# Altium footprint library Connector_Phoenix_MC.PcbLib: 180 footprints (part 8 of 12)
Each footprint in its own frame and in the unit in brackets; x right, y up, seen from the top. Pads: shape width x height; smd on the part's side, far side on the other; paste and mask are expansions set on the pad; w line width, h text height; cw(c..) or ccw(c..) is an arc to the next point about the centre after c.
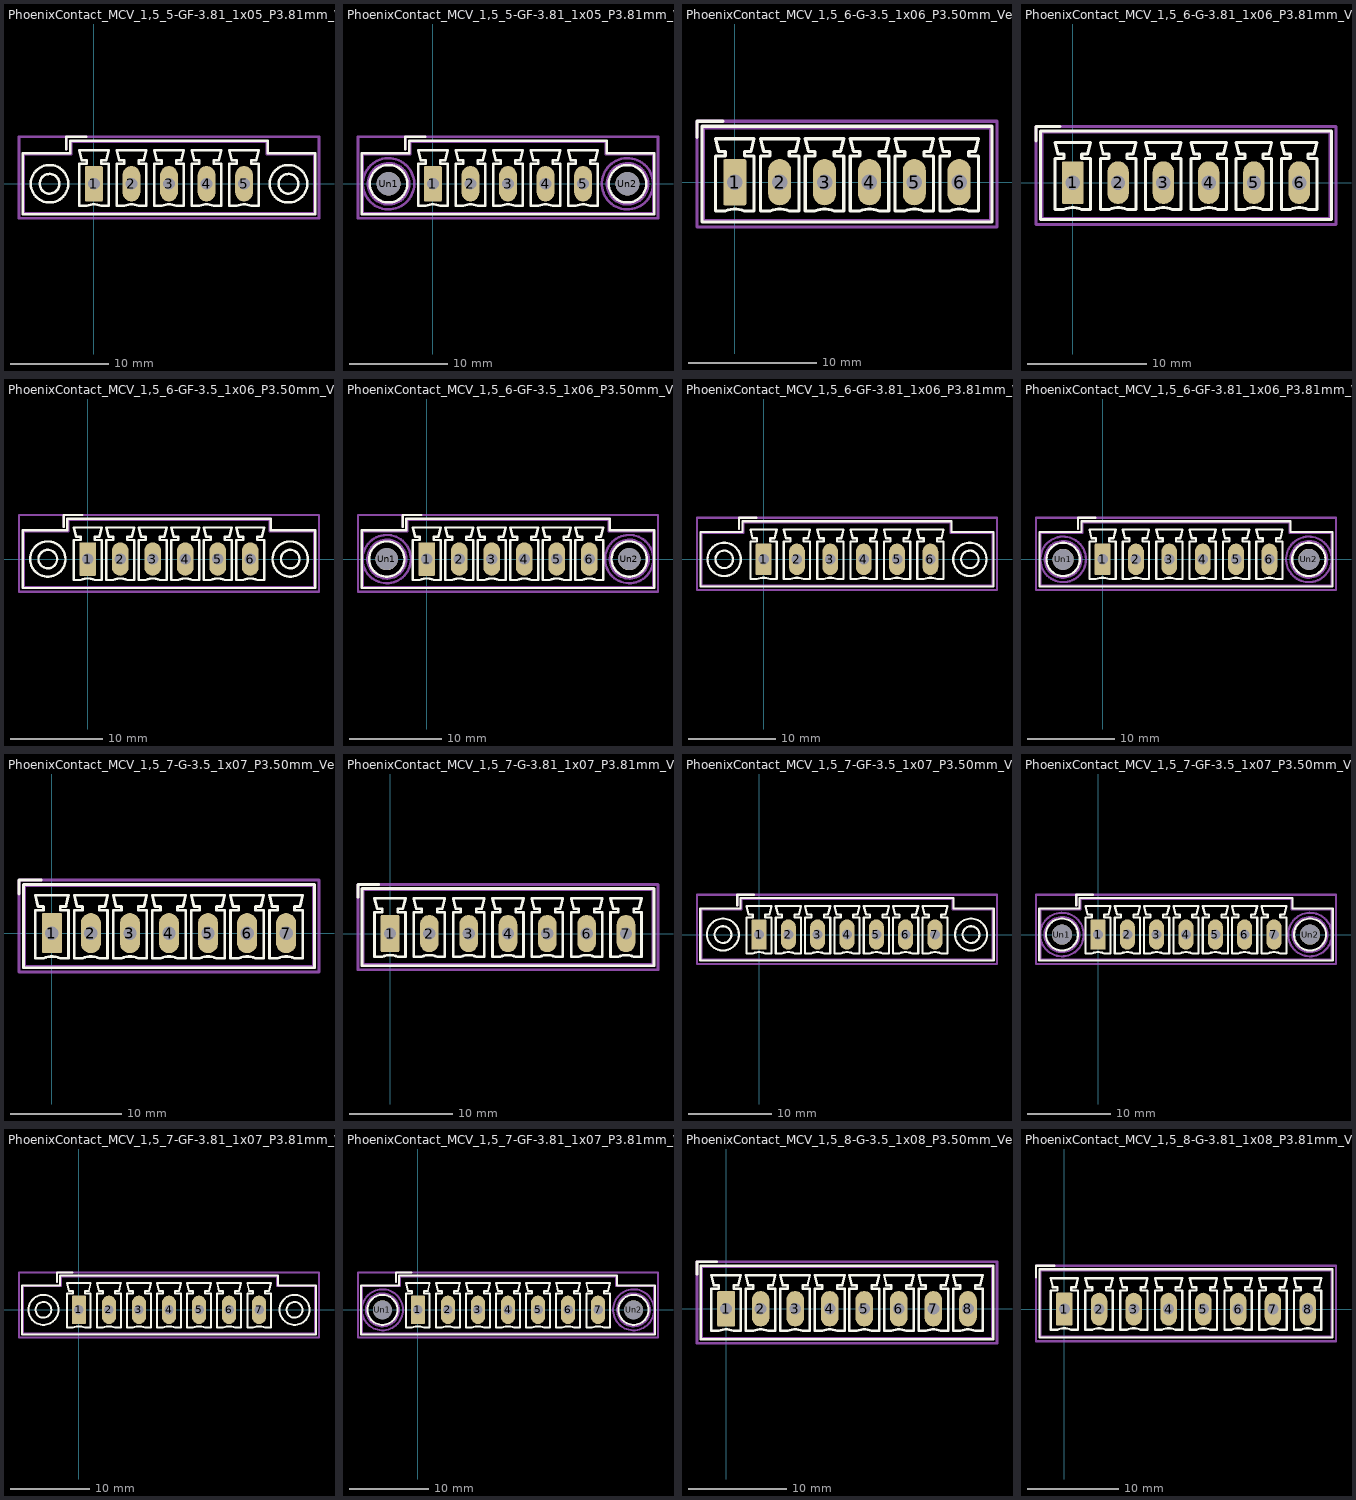
[diagram p7: the footprints below, top view; thin cyan lines are the x and y axes]

## PhoenixContact_MCV_1,5_5-GF-3.81_1x05_P3.81mm_Vertical_ThreadedFlange [mm]
pads (5):
  rrect14% 1.8x3.6 hole 1.2: 1(0,0)
  rrect100% 1.8x3.6 hole 1.2: 2(3.81,0) 3(7.62,0) 4(11.43,0) 5(15.24,0)
F.SilkS:
  circle w0.254: c19.74,0 r1.9
  circle w0.254: c19.74,0 r1
  circle w0.254: c-4.5,0 r1.9
  circle w0.254: c-4.5,0 r1
  lines w0.254: -2.8,3.5 -2.8,4.75 -0.8,4.75 ; 0.75,-2.25 ccw(c0,-3.95) -0.75,-2.25 -1.5,-2.25 -1.5,2.05 -0.75,2.05 -0.75,2.4 -1.25,2.4 -1.5,3.4 1.5,3.4 1.25,2.4 0.75,2.4 0.75,2.05 1.5,2.05 1.5,-2.25 0.75,-2.25 ; 4.56,-2.25 ccw(c3.81,-3.95) 3.06,-2.25 2.31,-2.25 2.31,2.05 3.06,2.05 3.06,2.4 2.56,2.4 2.31,3.4 5.31,3.4 5.06,2.4 4.56,2.4 4.56,2.05 5.31,2.05 5.31,-2.25 4.56,-2.25 ; 8.37,-2.25 ccw(c7.62,-3.95) 6.87,-2.25 6.12,-2.25 6.12,2.05 6.87,2.05 6.87,2.4 6.37,2.4 6.12,3.4 9.12,3.4 8.87,2.4 8.37,2.4 8.37,2.05 9.12,2.05 9.12,-2.25 8.37,-2.25 ; 12.18,-2.25 ccw(c11.43,-3.95) 10.68,-2.25 9.93,-2.25 9.93,2.05 10.68,2.05 10.68,2.4 10.18,2.4 9.93,3.4 12.93,3.4 12.68,2.4 12.18,2.4 12.18,2.05 12.93,2.05 12.93,-2.25 12.18,-2.25 ; 15.99,-2.25 ccw(c15.24,-3.95) 14.49,-2.25 13.74,-2.25 13.74,2.05 14.49,2.05 14.49,2.4 13.99,2.4 13.74,3.4 16.74,3.4 16.49,2.4 15.99,2.4 15.99,2.05 16.74,2.05 16.74,-2.25 15.99,-2.25 ; -7.21,-3.11 22.45,-3.11 22.45,3.11 17.65,3.11 17.65,4.36 -2.41,4.36 -2.41,3.11 -7.21,3.11 -7.21,-3.11
Top Assembly:
  lines w0.254: -2.8,3.5 -2.8,4.75 -0.8,4.75 ; -7.1,-3 22.34,-3 22.34,3 17.54,3 17.54,4.25 -2.3,4.25 -2.3,3 -7.1,3 -7.1,-3
  text "'.Designator'" at 3.573,2.71 h1
Top Courtyard:
  lines w0.254: -7.6,-3.5 22.84,-3.5 22.84,4.75 -7.6,4.75 -7.6,-3.5
Top Designator:
  text ".Designator" at 0.002,0.117 h1.52

## PhoenixContact_MCV_1,5_5-GF-3.81_1x05_P3.81mm_Vertical_ThreadedFlange_MountHole [mm]
pads (7):
  rrect14% 1.8x3.6 hole 1.2: 1(0,0)
  rrect100% 1.8x3.6 hole 1.2: 2(3.81,0) 3(7.62,0) 4(11.43,0) 5(15.24,0)
  round 2.4 hole 2.4: Un1(-4.5,0) Un2(19.74,0)
F.SilkS:
  circle w0.254: c19.74,0 r1.9
  circle w0.254: c-4.5,0 r1.9
  lines w0.254: -2.8,3.5 -2.8,4.75 -0.8,4.75 ; 0.75,-2.25 ccw(c0,-3.95) -0.75,-2.25 -1.5,-2.25 -1.5,2.05 -0.75,2.05 -0.75,2.4 -1.25,2.4 -1.5,3.4 1.5,3.4 1.25,2.4 0.75,2.4 0.75,2.05 1.5,2.05 1.5,-2.25 0.75,-2.25 ; 4.56,-2.25 ccw(c3.81,-3.95) 3.06,-2.25 2.31,-2.25 2.31,2.05 3.06,2.05 3.06,2.4 2.56,2.4 2.31,3.4 5.31,3.4 5.06,2.4 4.56,2.4 4.56,2.05 5.31,2.05 5.31,-2.25 4.56,-2.25 ; 8.37,-2.25 ccw(c7.62,-3.95) 6.87,-2.25 6.12,-2.25 6.12,2.05 6.87,2.05 6.87,2.4 6.37,2.4 6.12,3.4 9.12,3.4 8.87,2.4 8.37,2.4 8.37,2.05 9.12,2.05 9.12,-2.25 8.37,-2.25 ; 12.18,-2.25 ccw(c11.43,-3.95) 10.68,-2.25 9.93,-2.25 9.93,2.05 10.68,2.05 10.68,2.4 10.18,2.4 9.93,3.4 12.93,3.4 12.68,2.4 12.18,2.4 12.18,2.05 12.93,2.05 12.93,-2.25 12.18,-2.25 ; 15.99,-2.25 ccw(c15.24,-3.95) 14.49,-2.25 13.74,-2.25 13.74,2.05 14.49,2.05 14.49,2.4 13.99,2.4 13.74,3.4 16.74,3.4 16.49,2.4 15.99,2.4 15.99,2.05 16.74,2.05 16.74,-2.25 15.99,-2.25 ; -7.21,-3.11 22.45,-3.11 22.45,3.11 17.65,3.11 17.65,4.36 -2.41,4.36 -2.41,3.11 -7.21,3.11 -7.21,-3.11
B.SilkS:
  circle w0.254: c19.74,0 r2.21
  circle w0.254: c-4.5,0 r2.21
Top Assembly:
  lines w0.254: -2.8,3.5 -2.8,4.75 -0.8,4.75 ; -7.1,-3 22.34,-3 22.34,3 17.54,3 17.54,4.25 -2.3,4.25 -2.3,3 -7.1,3 -7.1,-3
  text "'.Designator'" at 3.573,2.71 h1
Bottom Assembly:
  circle w0.254: c19.74,0 r2.1
  circle w0.254: c-4.5,0 r2.1
Top Courtyard:
  lines w0.254: -7.6,-3.5 22.84,-3.5 22.84,4.75 -7.6,4.75 -7.6,-3.5
Bottom Courtyard:
  circle w0.254: c19.74,0 r2.6
  circle w0.254: c-4.5,0 r2.6
Top Designator:
  text ".Designator" at 0.002,0.117 h1.52

## PhoenixContact_MCV_1,5_6-G-3.5_1x06_P3.50mm_Vertical [mm]
pads (6):
  rrect14% 1.8x3.6 hole 1.2: 1(0,0)
  rrect100% 1.8x3.6 hole 1.2: 2(3.5,0) 3(7,0) 4(10.5,0) 5(14,0) 6(17.5,0)
F.SilkS:
  lines w0.254: -2.95,3.5 -2.95,4.75 -0.95,4.75 ; 0.75,-2.25 ccw(c0,-3.95) -0.75,-2.25 -1.5,-2.25 -1.5,2.05 -0.75,2.05 -0.75,2.4 -1.25,2.4 -1.5,3.4 1.5,3.4 1.25,2.4 0.75,2.4 0.75,2.05 1.5,2.05 1.5,-2.25 0.75,-2.25 ; -2.56,-3.11 20.06,-3.11 20.06,4.36 -2.56,4.36 -2.56,-3.11 ; 2,-2.25 2.75,-2.25 cw(c3.5,-3.95) 4.25,-2.25 5,-2.25 5,2.05 4.25,2.05 4.25,2.4 4.75,2.4 5,3.4 2,3.4 2.25,2.4 2.75,2.4 2.75,2.05 2,2.05 2,-2.25 ; 5.5,-2.25 6.25,-2.25 cw(c7,-3.95) 7.75,-2.25 8.5,-2.25 8.5,2.05 7.75,2.05 7.75,2.4 8.25,2.4 8.5,3.4 5.5,3.4 5.75,2.4 6.25,2.4 6.25,2.05 5.5,2.05 5.5,-2.25 ; 9,-2.25 9.75,-2.25 cw(c10.5,-3.95) 11.25,-2.25 12,-2.25 12,2.05 11.25,2.05 11.25,2.4 11.75,2.4 12,3.4 9,3.4 9.25,2.4 9.75,2.4 9.75,2.05 9,2.05 9,-2.25 ; 12.5,-2.25 13.25,-2.25 cw(c14,-3.95) 14.75,-2.25 15.5,-2.25 15.5,2.05 14.75,2.05 14.75,2.4 15.25,2.4 15.5,3.4 12.5,3.4 12.75,2.4 13.25,2.4 13.25,2.05 12.5,2.05 12.5,-2.25 ; 16,-2.25 16.75,-2.25 cw(c17.5,-3.95) 18.25,-2.25 19,-2.25 19,2.05 18.25,2.05 18.25,2.4 18.75,2.4 19,3.4 16,3.4 16.25,2.4 16.75,2.4 16.75,2.05 16,2.05 16,-2.25
Top Assembly:
  lines w0.254: -2.95,3.5 -2.95,4.75 -0.95,4.75 ; -2.45,-3 19.95,-3 19.95,4.25 -2.45,4.25 -2.45,-3
  text "'.Designator'" at 4.703,2.71 h1
Top Courtyard:
  lines w0.254: -2.95,-3.5 20.45,-3.5 20.45,4.75 -2.95,4.75 -2.95,-3.5
Top Designator:
  text ".Designator" at 1.132,0.117 h1.52

## PhoenixContact_MCV_1,5_6-G-3.81_1x06_P3.81mm_Vertical [mm]
pads (6):
  rrect14% 1.8x3.6 hole 1.2: 1(0,0)
  rrect100% 1.8x3.6 hole 1.2: 2(3.81,0) 3(7.62,0) 4(11.43,0) 5(15.24,0) 6(19.05,0)
F.SilkS:
  lines w0.254: -3.1,3.5 -3.1,4.75 -1.1,4.75 ; 0.75,-2.25 ccw(c0,-3.95) -0.75,-2.25 -1.5,-2.25 -1.5,2.05 -0.75,2.05 -0.75,2.4 -1.25,2.4 -1.5,3.4 1.5,3.4 1.25,2.4 0.75,2.4 0.75,2.05 1.5,2.05 1.5,-2.25 0.75,-2.25 ; 4.56,-2.25 ccw(c3.81,-3.95) 3.06,-2.25 2.31,-2.25 2.31,2.05 3.06,2.05 3.06,2.4 2.56,2.4 2.31,3.4 5.31,3.4 5.06,2.4 4.56,2.4 4.56,2.05 5.31,2.05 5.31,-2.25 4.56,-2.25 ; 8.37,-2.25 ccw(c7.62,-3.95) 6.87,-2.25 6.12,-2.25 6.12,2.05 6.87,2.05 6.87,2.4 6.37,2.4 6.12,3.4 9.12,3.4 8.87,2.4 8.37,2.4 8.37,2.05 9.12,2.05 9.12,-2.25 8.37,-2.25 ; 12.18,-2.25 ccw(c11.43,-3.95) 10.68,-2.25 9.93,-2.25 9.93,2.05 10.68,2.05 10.68,2.4 10.18,2.4 9.93,3.4 12.93,3.4 12.68,2.4 12.18,2.4 12.18,2.05 12.93,2.05 12.93,-2.25 12.18,-2.25 ; 15.99,-2.25 ccw(c15.24,-3.95) 14.49,-2.25 13.74,-2.25 13.74,2.05 14.49,2.05 14.49,2.4 13.99,2.4 13.74,3.4 16.74,3.4 16.49,2.4 15.99,2.4 15.99,2.05 16.74,2.05 16.74,-2.25 15.99,-2.25 ; 19.8,-2.25 ccw(c19.05,-3.95) 18.3,-2.25 17.55,-2.25 17.55,2.05 18.3,2.05 18.3,2.4 17.8,2.4 17.55,3.4 20.55,3.4 20.3,2.4 19.8,2.4 19.8,2.05 20.55,2.05 20.55,-2.25 19.8,-2.25 ; -2.71,-3.11 21.76,-3.11 21.76,4.36 -2.71,4.36 -2.71,-3.11
Top Assembly:
  lines w0.254: -3.1,3.5 -3.1,4.75 -1.1,4.75 ; -2.6,-3 21.65,-3 21.65,4.25 -2.6,4.25 -2.6,-3
  text "'.Designator'" at 5.473,2.71 h1
Top Courtyard:
  lines w0.254: -3.1,-3.5 22.15,-3.5 22.15,4.75 -3.1,4.75 -3.1,-3.5
Top Designator:
  text ".Designator" at 1.907,0.117 h1.52

## PhoenixContact_MCV_1,5_6-GF-3.5_1x06_P3.50mm_Vertical_ThreadedFlange [mm]
pads (6):
  rrect14% 1.8x3.6 hole 1.2: 1(0,0)
  rrect100% 1.8x3.6 hole 1.2: 2(3.5,0) 3(7,0) 4(10.5,0) 5(14,0) 6(17.5,0)
F.SilkS:
  circle w0.254: c21.8,0 r1.9
  circle w0.254: c21.8,0 r1
  circle w0.254: c-4.3,0 r1.9
  circle w0.254: c-4.3,0 r1
  lines w0.254: -2.6,3.5 -2.6,4.75 -0.6,4.75 ; 0.75,-2.25 ccw(c0,-3.95) -0.75,-2.25 -1.5,-2.25 -1.5,2.05 -0.75,2.05 -0.75,2.4 -1.25,2.4 -1.5,3.4 1.5,3.4 1.25,2.4 0.75,2.4 0.75,2.05 1.5,2.05 1.5,-2.25 0.75,-2.25 ; -7.01,-3.11 24.51,-3.11 24.51,3.11 19.71,3.11 19.71,4.36 -2.21,4.36 -2.21,3.11 -7.01,3.11 -7.01,-3.11 ; 2,-2.25 2.75,-2.25 cw(c3.5,-3.95) 4.25,-2.25 5,-2.25 5,2.05 4.25,2.05 4.25,2.4 4.75,2.4 5,3.4 2,3.4 2.25,2.4 2.75,2.4 2.75,2.05 2,2.05 2,-2.25 ; 5.5,-2.25 6.25,-2.25 cw(c7,-3.95) 7.75,-2.25 8.5,-2.25 8.5,2.05 7.75,2.05 7.75,2.4 8.25,2.4 8.5,3.4 5.5,3.4 5.75,2.4 6.25,2.4 6.25,2.05 5.5,2.05 5.5,-2.25 ; 9,-2.25 9.75,-2.25 cw(c10.5,-3.95) 11.25,-2.25 12,-2.25 12,2.05 11.25,2.05 11.25,2.4 11.75,2.4 12,3.4 9,3.4 9.25,2.4 9.75,2.4 9.75,2.05 9,2.05 9,-2.25 ; 12.5,-2.25 13.25,-2.25 cw(c14,-3.95) 14.75,-2.25 15.5,-2.25 15.5,2.05 14.75,2.05 14.75,2.4 15.25,2.4 15.5,3.4 12.5,3.4 12.75,2.4 13.25,2.4 13.25,2.05 12.5,2.05 12.5,-2.25 ; 16,-2.25 16.75,-2.25 cw(c17.5,-3.95) 18.25,-2.25 19,-2.25 19,2.05 18.25,2.05 18.25,2.4 18.75,2.4 19,3.4 16,3.4 16.25,2.4 16.75,2.4 16.75,2.05 16,2.05 16,-2.25
Top Assembly:
  lines w0.254: -2.6,3.5 -2.6,4.75 -0.6,4.75 ; -6.9,-3 24.4,-3 24.4,3 19.6,3 19.6,4.25 -2.1,4.25 -2.1,3 -6.9,3 -6.9,-3
  text "'.Designator'" at 4.703,2.71 h1
Top Courtyard:
  lines w0.254: -7.4,-3.5 24.9,-3.5 24.9,4.75 -7.4,4.75 -7.4,-3.5
Top Designator:
  text ".Designator" at 1.132,0.117 h1.52

## PhoenixContact_MCV_1,5_6-GF-3.5_1x06_P3.50mm_Vertical_ThreadedFlange_MountHole [mm]
pads (8):
  rrect14% 1.8x3.6 hole 1.2: 1(0,0)
  rrect100% 1.8x3.6 hole 1.2: 2(3.5,0) 3(7,0) 4(10.5,0) 5(14,0) 6(17.5,0)
  round 2.4 hole 2.4: Un1(-4.3,0) Un2(21.8,0)
F.SilkS:
  circle w0.254: c21.8,0 r1.9
  circle w0.254: c-4.3,0 r1.9
  lines w0.254: -2.6,3.5 -2.6,4.75 -0.6,4.75 ; 0.75,-2.25 ccw(c0,-3.95) -0.75,-2.25 -1.5,-2.25 -1.5,2.05 -0.75,2.05 -0.75,2.4 -1.25,2.4 -1.5,3.4 1.5,3.4 1.25,2.4 0.75,2.4 0.75,2.05 1.5,2.05 1.5,-2.25 0.75,-2.25 ; -7.01,-3.11 24.51,-3.11 24.51,3.11 19.71,3.11 19.71,4.36 -2.21,4.36 -2.21,3.11 -7.01,3.11 -7.01,-3.11 ; 2,-2.25 2.75,-2.25 cw(c3.5,-3.95) 4.25,-2.25 5,-2.25 5,2.05 4.25,2.05 4.25,2.4 4.75,2.4 5,3.4 2,3.4 2.25,2.4 2.75,2.4 2.75,2.05 2,2.05 2,-2.25 ; 5.5,-2.25 6.25,-2.25 cw(c7,-3.95) 7.75,-2.25 8.5,-2.25 8.5,2.05 7.75,2.05 7.75,2.4 8.25,2.4 8.5,3.4 5.5,3.4 5.75,2.4 6.25,2.4 6.25,2.05 5.5,2.05 5.5,-2.25 ; 9,-2.25 9.75,-2.25 cw(c10.5,-3.95) 11.25,-2.25 12,-2.25 12,2.05 11.25,2.05 11.25,2.4 11.75,2.4 12,3.4 9,3.4 9.25,2.4 9.75,2.4 9.75,2.05 9,2.05 9,-2.25 ; 12.5,-2.25 13.25,-2.25 cw(c14,-3.95) 14.75,-2.25 15.5,-2.25 15.5,2.05 14.75,2.05 14.75,2.4 15.25,2.4 15.5,3.4 12.5,3.4 12.75,2.4 13.25,2.4 13.25,2.05 12.5,2.05 12.5,-2.25 ; 16,-2.25 16.75,-2.25 cw(c17.5,-3.95) 18.25,-2.25 19,-2.25 19,2.05 18.25,2.05 18.25,2.4 18.75,2.4 19,3.4 16,3.4 16.25,2.4 16.75,2.4 16.75,2.05 16,2.05 16,-2.25
B.SilkS:
  circle w0.254: c21.8,0 r2.21
  circle w0.254: c-4.3,0 r2.21
Top Assembly:
  lines w0.254: -2.6,3.5 -2.6,4.75 -0.6,4.75 ; -6.9,-3 24.4,-3 24.4,3 19.6,3 19.6,4.25 -2.1,4.25 -2.1,3 -6.9,3 -6.9,-3
  text "'.Designator'" at 4.703,2.71 h1
Bottom Assembly:
  circle w0.254: c21.8,0 r2.1
  circle w0.254: c-4.3,0 r2.1
Top Courtyard:
  lines w0.254: -7.4,-3.5 24.9,-3.5 24.9,4.75 -7.4,4.75 -7.4,-3.5
Bottom Courtyard:
  circle w0.254: c21.8,0 r2.6
  circle w0.254: c-4.3,0 r2.6
Top Designator:
  text ".Designator" at 1.132,0.117 h1.52

## PhoenixContact_MCV_1,5_6-GF-3.81_1x06_P3.81mm_Vertical_ThreadedFlange [mm]
pads (6):
  rrect14% 1.8x3.6 hole 1.2: 1(0,0)
  rrect100% 1.8x3.6 hole 1.2: 2(3.81,0) 3(7.62,0) 4(11.43,0) 5(15.24,0) 6(19.05,0)
F.SilkS:
  circle w0.254: c23.55,0 r1.9
  circle w0.254: c23.55,0 r1
  circle w0.254: c-4.5,0 r1.9
  circle w0.254: c-4.5,0 r1
  lines w0.254: -2.8,3.5 -2.8,4.75 -0.8,4.75 ; 0.75,-2.25 ccw(c0,-3.95) -0.75,-2.25 -1.5,-2.25 -1.5,2.05 -0.75,2.05 -0.75,2.4 -1.25,2.4 -1.5,3.4 1.5,3.4 1.25,2.4 0.75,2.4 0.75,2.05 1.5,2.05 1.5,-2.25 0.75,-2.25 ; 4.56,-2.25 ccw(c3.81,-3.95) 3.06,-2.25 2.31,-2.25 2.31,2.05 3.06,2.05 3.06,2.4 2.56,2.4 2.31,3.4 5.31,3.4 5.06,2.4 4.56,2.4 4.56,2.05 5.31,2.05 5.31,-2.25 4.56,-2.25 ; 8.37,-2.25 ccw(c7.62,-3.95) 6.87,-2.25 6.12,-2.25 6.12,2.05 6.87,2.05 6.87,2.4 6.37,2.4 6.12,3.4 9.12,3.4 8.87,2.4 8.37,2.4 8.37,2.05 9.12,2.05 9.12,-2.25 8.37,-2.25 ; 12.18,-2.25 ccw(c11.43,-3.95) 10.68,-2.25 9.93,-2.25 9.93,2.05 10.68,2.05 10.68,2.4 10.18,2.4 9.93,3.4 12.93,3.4 12.68,2.4 12.18,2.4 12.18,2.05 12.93,2.05 12.93,-2.25 12.18,-2.25 ; 15.99,-2.25 ccw(c15.24,-3.95) 14.49,-2.25 13.74,-2.25 13.74,2.05 14.49,2.05 14.49,2.4 13.99,2.4 13.74,3.4 16.74,3.4 16.49,2.4 15.99,2.4 15.99,2.05 16.74,2.05 16.74,-2.25 15.99,-2.25 ; 19.8,-2.25 ccw(c19.05,-3.95) 18.3,-2.25 17.55,-2.25 17.55,2.05 18.3,2.05 18.3,2.4 17.8,2.4 17.55,3.4 20.55,3.4 20.3,2.4 19.8,2.4 19.8,2.05 20.55,2.05 20.55,-2.25 19.8,-2.25 ; -7.21,-3.11 26.26,-3.11 26.26,3.11 21.46,3.11 21.46,4.36 -2.41,4.36 -2.41,3.11 -7.21,3.11 -7.21,-3.11
Top Assembly:
  lines w0.254: -2.8,3.5 -2.8,4.75 -0.8,4.75 ; -7.1,-3 26.15,-3 26.15,3 21.35,3 21.35,4.25 -2.3,4.25 -2.3,3 -7.1,3 -7.1,-3
  text "'.Designator'" at 5.473,2.71 h1
Top Courtyard:
  lines w0.254: -7.6,-3.5 26.65,-3.5 26.65,4.75 -7.6,4.75 -7.6,-3.5
Top Designator:
  text ".Designator" at 1.907,0.117 h1.52

## PhoenixContact_MCV_1,5_6-GF-3.81_1x06_P3.81mm_Vertical_ThreadedFlange_MountHole [mm]
pads (8):
  rrect14% 1.8x3.6 hole 1.2: 1(0,0)
  rrect100% 1.8x3.6 hole 1.2: 2(3.81,0) 3(7.62,0) 4(11.43,0) 5(15.24,0) 6(19.05,0)
  round 2.4 hole 2.4: Un1(-4.5,0) Un2(23.55,0)
F.SilkS:
  circle w0.254: c23.55,0 r1.9
  circle w0.254: c-4.5,0 r1.9
  lines w0.254: -2.8,3.5 -2.8,4.75 -0.8,4.75 ; 0.75,-2.25 ccw(c0,-3.95) -0.75,-2.25 -1.5,-2.25 -1.5,2.05 -0.75,2.05 -0.75,2.4 -1.25,2.4 -1.5,3.4 1.5,3.4 1.25,2.4 0.75,2.4 0.75,2.05 1.5,2.05 1.5,-2.25 0.75,-2.25 ; 4.56,-2.25 ccw(c3.81,-3.95) 3.06,-2.25 2.31,-2.25 2.31,2.05 3.06,2.05 3.06,2.4 2.56,2.4 2.31,3.4 5.31,3.4 5.06,2.4 4.56,2.4 4.56,2.05 5.31,2.05 5.31,-2.25 4.56,-2.25 ; 8.37,-2.25 ccw(c7.62,-3.95) 6.87,-2.25 6.12,-2.25 6.12,2.05 6.87,2.05 6.87,2.4 6.37,2.4 6.12,3.4 9.12,3.4 8.87,2.4 8.37,2.4 8.37,2.05 9.12,2.05 9.12,-2.25 8.37,-2.25 ; 12.18,-2.25 ccw(c11.43,-3.95) 10.68,-2.25 9.93,-2.25 9.93,2.05 10.68,2.05 10.68,2.4 10.18,2.4 9.93,3.4 12.93,3.4 12.68,2.4 12.18,2.4 12.18,2.05 12.93,2.05 12.93,-2.25 12.18,-2.25 ; 15.99,-2.25 ccw(c15.24,-3.95) 14.49,-2.25 13.74,-2.25 13.74,2.05 14.49,2.05 14.49,2.4 13.99,2.4 13.74,3.4 16.74,3.4 16.49,2.4 15.99,2.4 15.99,2.05 16.74,2.05 16.74,-2.25 15.99,-2.25 ; 19.8,-2.25 ccw(c19.05,-3.95) 18.3,-2.25 17.55,-2.25 17.55,2.05 18.3,2.05 18.3,2.4 17.8,2.4 17.55,3.4 20.55,3.4 20.3,2.4 19.8,2.4 19.8,2.05 20.55,2.05 20.55,-2.25 19.8,-2.25 ; -7.21,-3.11 26.26,-3.11 26.26,3.11 21.46,3.11 21.46,4.36 -2.41,4.36 -2.41,3.11 -7.21,3.11 -7.21,-3.11
B.SilkS:
  circle w0.254: c23.55,0 r2.21
  circle w0.254: c-4.5,0 r2.21
Top Assembly:
  lines w0.254: -2.8,3.5 -2.8,4.75 -0.8,4.75 ; -7.1,-3 26.15,-3 26.15,3 21.35,3 21.35,4.25 -2.3,4.25 -2.3,3 -7.1,3 -7.1,-3
  text "'.Designator'" at 5.473,2.71 h1
Bottom Assembly:
  circle w0.254: c23.55,0 r2.1
  circle w0.254: c-4.5,0 r2.1
Top Courtyard:
  lines w0.254: -7.6,-3.5 26.65,-3.5 26.65,4.75 -7.6,4.75 -7.6,-3.5
Bottom Courtyard:
  circle w0.254: c23.55,0 r2.6
  circle w0.254: c-4.5,0 r2.6
Top Designator:
  text ".Designator" at 1.907,0.117 h1.52

## PhoenixContact_MCV_1,5_7-G-3.5_1x07_P3.50mm_Vertical [mm]
pads (7):
  rrect14% 1.8x3.6 hole 1.2: 1(0,0)
  rrect100% 1.8x3.6 hole 1.2: 2(3.5,0) 3(7,0) 4(10.5,0) 5(14,0) 6(17.5,0) 7(21,0)
F.SilkS:
  lines w0.254: -2.95,3.5 -2.95,4.75 -0.95,4.75 ; 0.75,-2.25 ccw(c0,-3.95) -0.75,-2.25 -1.5,-2.25 -1.5,2.05 -0.75,2.05 -0.75,2.4 -1.25,2.4 -1.5,3.4 1.5,3.4 1.25,2.4 0.75,2.4 0.75,2.05 1.5,2.05 1.5,-2.25 0.75,-2.25 ; -2.56,-3.11 23.56,-3.11 23.56,4.36 -2.56,4.36 -2.56,-3.11 ; 2,-2.25 2.75,-2.25 cw(c3.5,-3.95) 4.25,-2.25 5,-2.25 5,2.05 4.25,2.05 4.25,2.4 4.75,2.4 5,3.4 2,3.4 2.25,2.4 2.75,2.4 2.75,2.05 2,2.05 2,-2.25 ; 5.5,-2.25 6.25,-2.25 cw(c7,-3.95) 7.75,-2.25 8.5,-2.25 8.5,2.05 7.75,2.05 7.75,2.4 8.25,2.4 8.5,3.4 5.5,3.4 5.75,2.4 6.25,2.4 6.25,2.05 5.5,2.05 5.5,-2.25 ; 9,-2.25 9.75,-2.25 cw(c10.5,-3.95) 11.25,-2.25 12,-2.25 12,2.05 11.25,2.05 11.25,2.4 11.75,2.4 12,3.4 9,3.4 9.25,2.4 9.75,2.4 9.75,2.05 9,2.05 9,-2.25 ; 12.5,-2.25 13.25,-2.25 cw(c14,-3.95) 14.75,-2.25 15.5,-2.25 15.5,2.05 14.75,2.05 14.75,2.4 15.25,2.4 15.5,3.4 12.5,3.4 12.75,2.4 13.25,2.4 13.25,2.05 12.5,2.05 12.5,-2.25 ; 16,-2.25 16.75,-2.25 cw(c17.5,-3.95) 18.25,-2.25 19,-2.25 19,2.05 18.25,2.05 18.25,2.4 18.75,2.4 19,3.4 16,3.4 16.25,2.4 16.75,2.4 16.75,2.05 16,2.05 16,-2.25 ; 19.5,-2.25 20.25,-2.25 cw(c21,-3.95) 21.75,-2.25 22.5,-2.25 22.5,2.05 21.75,2.05 21.75,2.4 22.25,2.4 22.5,3.4 19.5,3.4 19.75,2.4 20.25,2.4 20.25,2.05 19.5,2.05 19.5,-2.25
Top Assembly:
  lines w0.254: -2.95,3.5 -2.95,4.75 -0.95,4.75 ; -2.45,-3 23.45,-3 23.45,4.25 -2.45,4.25 -2.45,-3
  text "'.Designator'" at 6.453,2.71 h1
Top Courtyard:
  lines w0.254: -2.95,-3.5 23.95,-3.5 23.95,4.75 -2.95,4.75 -2.95,-3.5
Top Designator:
  text ".Designator" at 2.882,0.117 h1.52

## PhoenixContact_MCV_1,5_7-G-3.81_1x07_P3.81mm_Vertical [mm]
pads (7):
  rrect14% 1.8x3.6 hole 1.2: 1(0,0)
  rrect100% 1.8x3.6 hole 1.2: 2(3.81,0) 3(7.62,0) 4(11.43,0) 5(15.24,0) 6(19.05,0) 7(22.86,0)
F.SilkS:
  lines w0.254: -3.1,3.5 -3.1,4.75 -1.1,4.75 ; 0.75,-2.25 ccw(c0,-3.95) -0.75,-2.25 -1.5,-2.25 -1.5,2.05 -0.75,2.05 -0.75,2.4 -1.25,2.4 -1.5,3.4 1.5,3.4 1.25,2.4 0.75,2.4 0.75,2.05 1.5,2.05 1.5,-2.25 0.75,-2.25 ; 4.56,-2.25 ccw(c3.81,-3.95) 3.06,-2.25 2.31,-2.25 2.31,2.05 3.06,2.05 3.06,2.4 2.56,2.4 2.31,3.4 5.31,3.4 5.06,2.4 4.56,2.4 4.56,2.05 5.31,2.05 5.31,-2.25 4.56,-2.25 ; 8.37,-2.25 ccw(c7.62,-3.95) 6.87,-2.25 6.12,-2.25 6.12,2.05 6.87,2.05 6.87,2.4 6.37,2.4 6.12,3.4 9.12,3.4 8.87,2.4 8.37,2.4 8.37,2.05 9.12,2.05 9.12,-2.25 8.37,-2.25 ; 12.18,-2.25 ccw(c11.43,-3.95) 10.68,-2.25 9.93,-2.25 9.93,2.05 10.68,2.05 10.68,2.4 10.18,2.4 9.93,3.4 12.93,3.4 12.68,2.4 12.18,2.4 12.18,2.05 12.93,2.05 12.93,-2.25 12.18,-2.25 ; 15.99,-2.25 ccw(c15.24,-3.95) 14.49,-2.25 13.74,-2.25 13.74,2.05 14.49,2.05 14.49,2.4 13.99,2.4 13.74,3.4 16.74,3.4 16.49,2.4 15.99,2.4 15.99,2.05 16.74,2.05 16.74,-2.25 15.99,-2.25 ; 19.8,-2.25 ccw(c19.05,-3.95) 18.3,-2.25 17.55,-2.25 17.55,2.05 18.3,2.05 18.3,2.4 17.8,2.4 17.55,3.4 20.55,3.4 20.3,2.4 19.8,2.4 19.8,2.05 20.55,2.05 20.55,-2.25 19.8,-2.25 ; 23.61,-2.25 ccw(c22.86,-3.95) 22.11,-2.25 21.36,-2.25 21.36,2.05 22.11,2.05 22.11,2.4 21.61,2.4 21.36,3.4 24.36,3.4 24.11,2.4 23.61,2.4 23.61,2.05 24.36,2.05 24.36,-2.25 23.61,-2.25 ; -2.71,-3.11 25.57,-3.11 25.57,4.36 -2.71,4.36 -2.71,-3.11
Top Assembly:
  lines w0.254: -3.1,3.5 -3.1,4.75 -1.1,4.75 ; -2.6,-3 25.46,-3 25.46,4.25 -2.6,4.25 -2.6,-3
  text "'.Designator'" at 7.383,2.71 h1
Top Courtyard:
  lines w0.254: -3.1,-3.5 25.96,-3.5 25.96,4.75 -3.1,4.75 -3.1,-3.5
Top Designator:
  text ".Designator" at 3.812,0.117 h1.52

## PhoenixContact_MCV_1,5_7-GF-3.5_1x07_P3.50mm_Vertical_ThreadedFlange [mm]
pads (7):
  rrect14% 1.8x3.6 hole 1.2: 1(0,0)
  rrect100% 1.8x3.6 hole 1.2: 2(3.5,0) 3(7,0) 4(10.5,0) 5(14,0) 6(17.5,0) 7(21,0)
F.SilkS:
  circle w0.254: c25.3,0 r1.9
  circle w0.254: c25.3,0 r1
  circle w0.254: c-4.3,0 r1.9
  circle w0.254: c-4.3,0 r1
  lines w0.254: -2.6,3.5 -2.6,4.75 -0.6,4.75 ; 0.75,-2.25 ccw(c0,-3.95) -0.75,-2.25 -1.5,-2.25 -1.5,2.05 -0.75,2.05 -0.75,2.4 -1.25,2.4 -1.5,3.4 1.5,3.4 1.25,2.4 0.75,2.4 0.75,2.05 1.5,2.05 1.5,-2.25 0.75,-2.25 ; -7.01,-3.11 28.01,-3.11 28.01,3.11 23.21,3.11 23.21,4.36 -2.21,4.36 -2.21,3.11 -7.01,3.11 -7.01,-3.11 ; 2,-2.25 2.75,-2.25 cw(c3.5,-3.95) 4.25,-2.25 5,-2.25 5,2.05 4.25,2.05 4.25,2.4 4.75,2.4 5,3.4 2,3.4 2.25,2.4 2.75,2.4 2.75,2.05 2,2.05 2,-2.25 ; 5.5,-2.25 6.25,-2.25 cw(c7,-3.95) 7.75,-2.25 8.5,-2.25 8.5,2.05 7.75,2.05 7.75,2.4 8.25,2.4 8.5,3.4 5.5,3.4 5.75,2.4 6.25,2.4 6.25,2.05 5.5,2.05 5.5,-2.25 ; 9,-2.25 9.75,-2.25 cw(c10.5,-3.95) 11.25,-2.25 12,-2.25 12,2.05 11.25,2.05 11.25,2.4 11.75,2.4 12,3.4 9,3.4 9.25,2.4 9.75,2.4 9.75,2.05 9,2.05 9,-2.25 ; 12.5,-2.25 13.25,-2.25 cw(c14,-3.95) 14.75,-2.25 15.5,-2.25 15.5,2.05 14.75,2.05 14.75,2.4 15.25,2.4 15.5,3.4 12.5,3.4 12.75,2.4 13.25,2.4 13.25,2.05 12.5,2.05 12.5,-2.25 ; 16,-2.25 16.75,-2.25 cw(c17.5,-3.95) 18.25,-2.25 19,-2.25 19,2.05 18.25,2.05 18.25,2.4 18.75,2.4 19,3.4 16,3.4 16.25,2.4 16.75,2.4 16.75,2.05 16,2.05 16,-2.25 ; 19.5,-2.25 20.25,-2.25 cw(c21,-3.95) 21.75,-2.25 22.5,-2.25 22.5,2.05 21.75,2.05 21.75,2.4 22.25,2.4 22.5,3.4 19.5,3.4 19.75,2.4 20.25,2.4 20.25,2.05 19.5,2.05 19.5,-2.25
Top Assembly:
  lines w0.254: -2.6,3.5 -2.6,4.75 -0.6,4.75 ; -6.9,-3 27.9,-3 27.9,3 23.1,3 23.1,4.25 -2.1,4.25 -2.1,3 -6.9,3 -6.9,-3
  text "'.Designator'" at 6.453,2.71 h1
Top Courtyard:
  lines w0.254: -7.4,-3.5 28.4,-3.5 28.4,4.75 -7.4,4.75 -7.4,-3.5
Top Designator:
  text ".Designator" at 2.882,0.117 h1.52

## PhoenixContact_MCV_1,5_7-GF-3.5_1x07_P3.50mm_Vertical_ThreadedFlange_MountHole [mm]
pads (9):
  rrect14% 1.8x3.6 hole 1.2: 1(0,0)
  rrect100% 1.8x3.6 hole 1.2: 2(3.5,0) 3(7,0) 4(10.5,0) 5(14,0) 6(17.5,0) 7(21,0)
  round 2.4 hole 2.4: Un1(-4.3,0) Un2(25.3,0)
F.SilkS:
  circle w0.254: c25.3,0 r1.9
  circle w0.254: c-4.3,0 r1.9
  lines w0.254: -2.6,3.5 -2.6,4.75 -0.6,4.75 ; 0.75,-2.25 ccw(c0,-3.95) -0.75,-2.25 -1.5,-2.25 -1.5,2.05 -0.75,2.05 -0.75,2.4 -1.25,2.4 -1.5,3.4 1.5,3.4 1.25,2.4 0.75,2.4 0.75,2.05 1.5,2.05 1.5,-2.25 0.75,-2.25 ; -7.01,-3.11 28.01,-3.11 28.01,3.11 23.21,3.11 23.21,4.36 -2.21,4.36 -2.21,3.11 -7.01,3.11 -7.01,-3.11 ; 2,-2.25 2.75,-2.25 cw(c3.5,-3.95) 4.25,-2.25 5,-2.25 5,2.05 4.25,2.05 4.25,2.4 4.75,2.4 5,3.4 2,3.4 2.25,2.4 2.75,2.4 2.75,2.05 2,2.05 2,-2.25 ; 5.5,-2.25 6.25,-2.25 cw(c7,-3.95) 7.75,-2.25 8.5,-2.25 8.5,2.05 7.75,2.05 7.75,2.4 8.25,2.4 8.5,3.4 5.5,3.4 5.75,2.4 6.25,2.4 6.25,2.05 5.5,2.05 5.5,-2.25 ; 9,-2.25 9.75,-2.25 cw(c10.5,-3.95) 11.25,-2.25 12,-2.25 12,2.05 11.25,2.05 11.25,2.4 11.75,2.4 12,3.4 9,3.4 9.25,2.4 9.75,2.4 9.75,2.05 9,2.05 9,-2.25 ; 12.5,-2.25 13.25,-2.25 cw(c14,-3.95) 14.75,-2.25 15.5,-2.25 15.5,2.05 14.75,2.05 14.75,2.4 15.25,2.4 15.5,3.4 12.5,3.4 12.75,2.4 13.25,2.4 13.25,2.05 12.5,2.05 12.5,-2.25 ; 16,-2.25 16.75,-2.25 cw(c17.5,-3.95) 18.25,-2.25 19,-2.25 19,2.05 18.25,2.05 18.25,2.4 18.75,2.4 19,3.4 16,3.4 16.25,2.4 16.75,2.4 16.75,2.05 16,2.05 16,-2.25 ; 19.5,-2.25 20.25,-2.25 cw(c21,-3.95) 21.75,-2.25 22.5,-2.25 22.5,2.05 21.75,2.05 21.75,2.4 22.25,2.4 22.5,3.4 19.5,3.4 19.75,2.4 20.25,2.4 20.25,2.05 19.5,2.05 19.5,-2.25
B.SilkS:
  circle w0.254: c25.3,0 r2.21
  circle w0.254: c-4.3,0 r2.21
Top Assembly:
  lines w0.254: -2.6,3.5 -2.6,4.75 -0.6,4.75 ; -6.9,-3 27.9,-3 27.9,3 23.1,3 23.1,4.25 -2.1,4.25 -2.1,3 -6.9,3 -6.9,-3
  text "'.Designator'" at 6.453,2.71 h1
Bottom Assembly:
  circle w0.254: c25.3,0 r2.1
  circle w0.254: c-4.3,0 r2.1
Top Courtyard:
  lines w0.254: -7.4,-3.5 28.4,-3.5 28.4,4.75 -7.4,4.75 -7.4,-3.5
Bottom Courtyard:
  circle w0.254: c25.3,0 r2.6
  circle w0.254: c-4.3,0 r2.6
Top Designator:
  text ".Designator" at 2.882,0.117 h1.52

## PhoenixContact_MCV_1,5_7-GF-3.81_1x07_P3.81mm_Vertical_ThreadedFlange [mm]
pads (7):
  rrect14% 1.8x3.6 hole 1.2: 1(0,0)
  rrect100% 1.8x3.6 hole 1.2: 2(3.81,0) 3(7.62,0) 4(11.43,0) 5(15.24,0) 6(19.05,0) 7(22.86,0)
F.SilkS:
  circle w0.254: c27.36,0 r1.9
  circle w0.254: c27.36,0 r1
  circle w0.254: c-4.5,0 r1.9
  circle w0.254: c-4.5,0 r1
  lines w0.254: -2.8,3.5 -2.8,4.75 -0.8,4.75 ; 0.75,-2.25 ccw(c0,-3.95) -0.75,-2.25 -1.5,-2.25 -1.5,2.05 -0.75,2.05 -0.75,2.4 -1.25,2.4 -1.5,3.4 1.5,3.4 1.25,2.4 0.75,2.4 0.75,2.05 1.5,2.05 1.5,-2.25 0.75,-2.25 ; 4.56,-2.25 ccw(c3.81,-3.95) 3.06,-2.25 2.31,-2.25 2.31,2.05 3.06,2.05 3.06,2.4 2.56,2.4 2.31,3.4 5.31,3.4 5.06,2.4 4.56,2.4 4.56,2.05 5.31,2.05 5.31,-2.25 4.56,-2.25 ; 8.37,-2.25 ccw(c7.62,-3.95) 6.87,-2.25 6.12,-2.25 6.12,2.05 6.87,2.05 6.87,2.4 6.37,2.4 6.12,3.4 9.12,3.4 8.87,2.4 8.37,2.4 8.37,2.05 9.12,2.05 9.12,-2.25 8.37,-2.25 ; 12.18,-2.25 ccw(c11.43,-3.95) 10.68,-2.25 9.93,-2.25 9.93,2.05 10.68,2.05 10.68,2.4 10.18,2.4 9.93,3.4 12.93,3.4 12.68,2.4 12.18,2.4 12.18,2.05 12.93,2.05 12.93,-2.25 12.18,-2.25 ; 15.99,-2.25 ccw(c15.24,-3.95) 14.49,-2.25 13.74,-2.25 13.74,2.05 14.49,2.05 14.49,2.4 13.99,2.4 13.74,3.4 16.74,3.4 16.49,2.4 15.99,2.4 15.99,2.05 16.74,2.05 16.74,-2.25 15.99,-2.25 ; 19.8,-2.25 ccw(c19.05,-3.95) 18.3,-2.25 17.55,-2.25 17.55,2.05 18.3,2.05 18.3,2.4 17.8,2.4 17.55,3.4 20.55,3.4 20.3,2.4 19.8,2.4 19.8,2.05 20.55,2.05 20.55,-2.25 19.8,-2.25 ; 23.61,-2.25 ccw(c22.86,-3.95) 22.11,-2.25 21.36,-2.25 21.36,2.05 22.11,2.05 22.11,2.4 21.61,2.4 21.36,3.4 24.36,3.4 24.11,2.4 23.61,2.4 23.61,2.05 24.36,2.05 24.36,-2.25 23.61,-2.25 ; -7.21,-3.11 30.07,-3.11 30.07,3.11 25.27,3.11 25.27,4.36 -2.41,4.36 -2.41,3.11 -7.21,3.11 -7.21,-3.11
Top Assembly:
  lines w0.254: -2.8,3.5 -2.8,4.75 -0.8,4.75 ; -7.1,-3 29.96,-3 29.96,3 25.16,3 25.16,4.25 -2.3,4.25 -2.3,3 -7.1,3 -7.1,-3
  text "'.Designator'" at 7.383,2.71 h1
Top Courtyard:
  lines w0.254: -7.6,-3.5 30.46,-3.5 30.46,4.75 -7.6,4.75 -7.6,-3.5
Top Designator:
  text ".Designator" at 3.812,0.117 h1.52

## PhoenixContact_MCV_1,5_7-GF-3.81_1x07_P3.81mm_Vertical_ThreadedFlange_MountHole [mm]
pads (9):
  rrect14% 1.8x3.6 hole 1.2: 1(0,0)
  rrect100% 1.8x3.6 hole 1.2: 2(3.81,0) 3(7.62,0) 4(11.43,0) 5(15.24,0) 6(19.05,0) 7(22.86,0)
  round 2.4 hole 2.4: Un1(-4.5,0) Un2(27.36,0)
F.SilkS:
  circle w0.254: c27.36,0 r1.9
  circle w0.254: c-4.5,0 r1.9
  lines w0.254: -2.8,3.5 -2.8,4.75 -0.8,4.75 ; 0.75,-2.25 ccw(c0,-3.95) -0.75,-2.25 -1.5,-2.25 -1.5,2.05 -0.75,2.05 -0.75,2.4 -1.25,2.4 -1.5,3.4 1.5,3.4 1.25,2.4 0.75,2.4 0.75,2.05 1.5,2.05 1.5,-2.25 0.75,-2.25 ; 4.56,-2.25 ccw(c3.81,-3.95) 3.06,-2.25 2.31,-2.25 2.31,2.05 3.06,2.05 3.06,2.4 2.56,2.4 2.31,3.4 5.31,3.4 5.06,2.4 4.56,2.4 4.56,2.05 5.31,2.05 5.31,-2.25 4.56,-2.25 ; 8.37,-2.25 ccw(c7.62,-3.95) 6.87,-2.25 6.12,-2.25 6.12,2.05 6.87,2.05 6.87,2.4 6.37,2.4 6.12,3.4 9.12,3.4 8.87,2.4 8.37,2.4 8.37,2.05 9.12,2.05 9.12,-2.25 8.37,-2.25 ; 12.18,-2.25 ccw(c11.43,-3.95) 10.68,-2.25 9.93,-2.25 9.93,2.05 10.68,2.05 10.68,2.4 10.18,2.4 9.93,3.4 12.93,3.4 12.68,2.4 12.18,2.4 12.18,2.05 12.93,2.05 12.93,-2.25 12.18,-2.25 ; 15.99,-2.25 ccw(c15.24,-3.95) 14.49,-2.25 13.74,-2.25 13.74,2.05 14.49,2.05 14.49,2.4 13.99,2.4 13.74,3.4 16.74,3.4 16.49,2.4 15.99,2.4 15.99,2.05 16.74,2.05 16.74,-2.25 15.99,-2.25 ; 19.8,-2.25 ccw(c19.05,-3.95) 18.3,-2.25 17.55,-2.25 17.55,2.05 18.3,2.05 18.3,2.4 17.8,2.4 17.55,3.4 20.55,3.4 20.3,2.4 19.8,2.4 19.8,2.05 20.55,2.05 20.55,-2.25 19.8,-2.25 ; 23.61,-2.25 ccw(c22.86,-3.95) 22.11,-2.25 21.36,-2.25 21.36,2.05 22.11,2.05 22.11,2.4 21.61,2.4 21.36,3.4 24.36,3.4 24.11,2.4 23.61,2.4 23.61,2.05 24.36,2.05 24.36,-2.25 23.61,-2.25 ; -7.21,-3.11 30.07,-3.11 30.07,3.11 25.27,3.11 25.27,4.36 -2.41,4.36 -2.41,3.11 -7.21,3.11 -7.21,-3.11
B.SilkS:
  circle w0.254: c27.36,0 r2.21
  circle w0.254: c-4.5,0 r2.21
Top Assembly:
  lines w0.254: -2.8,3.5 -2.8,4.75 -0.8,4.75 ; -7.1,-3 29.96,-3 29.96,3 25.16,3 25.16,4.25 -2.3,4.25 -2.3,3 -7.1,3 -7.1,-3
  text "'.Designator'" at 7.383,2.71 h1
Bottom Assembly:
  circle w0.254: c27.36,0 r2.1
  circle w0.254: c-4.5,0 r2.1
Top Courtyard:
  lines w0.254: -7.6,-3.5 30.46,-3.5 30.46,4.75 -7.6,4.75 -7.6,-3.5
Bottom Courtyard:
  circle w0.254: c27.36,0 r2.6
  circle w0.254: c-4.5,0 r2.6
Top Designator:
  text ".Designator" at 3.812,0.117 h1.52

## PhoenixContact_MCV_1,5_8-G-3.5_1x08_P3.50mm_Vertical [mm]
pads (8):
  rrect14% 1.8x3.6 hole 1.2: 1(0,0)
  rrect100% 1.8x3.6 hole 1.2: 2(3.5,0) 3(7,0) 4(10.5,0) 5(14,0) 6(17.5,0) 7(21,0) 8(24.5,0)
F.SilkS:
  lines w0.254: -2.95,3.5 -2.95,4.75 -0.95,4.75 ; 0.75,-2.25 ccw(c0,-3.95) -0.75,-2.25 -1.5,-2.25 -1.5,2.05 -0.75,2.05 -0.75,2.4 -1.25,2.4 -1.5,3.4 1.5,3.4 1.25,2.4 0.75,2.4 0.75,2.05 1.5,2.05 1.5,-2.25 0.75,-2.25 ; -2.56,-3.11 27.06,-3.11 27.06,4.36 -2.56,4.36 -2.56,-3.11 ; 2,-2.25 2.75,-2.25 cw(c3.5,-3.95) 4.25,-2.25 5,-2.25 5,2.05 4.25,2.05 4.25,2.4 4.75,2.4 5,3.4 2,3.4 2.25,2.4 2.75,2.4 2.75,2.05 2,2.05 2,-2.25 ; 5.5,-2.25 6.25,-2.25 cw(c7,-3.95) 7.75,-2.25 8.5,-2.25 8.5,2.05 7.75,2.05 7.75,2.4 8.25,2.4 8.5,3.4 5.5,3.4 5.75,2.4 6.25,2.4 6.25,2.05 5.5,2.05 5.5,-2.25 ; 9,-2.25 9.75,-2.25 cw(c10.5,-3.95) 11.25,-2.25 12,-2.25 12,2.05 11.25,2.05 11.25,2.4 11.75,2.4 12,3.4 9,3.4 9.25,2.4 9.75,2.4 9.75,2.05 9,2.05 9,-2.25 ; 12.5,-2.25 13.25,-2.25 cw(c14,-3.95) 14.75,-2.25 15.5,-2.25 15.5,2.05 14.75,2.05 14.75,2.4 15.25,2.4 15.5,3.4 12.5,3.4 12.75,2.4 13.25,2.4 13.25,2.05 12.5,2.05 12.5,-2.25 ; 16,-2.25 16.75,-2.25 cw(c17.5,-3.95) 18.25,-2.25 19,-2.25 19,2.05 18.25,2.05 18.25,2.4 18.75,2.4 19,3.4 16,3.4 16.25,2.4 16.75,2.4 16.75,2.05 16,2.05 16,-2.25 ; 19.5,-2.25 20.25,-2.25 cw(c21,-3.95) 21.75,-2.25 22.5,-2.25 22.5,2.05 21.75,2.05 21.75,2.4 22.25,2.4 22.5,3.4 19.5,3.4 19.75,2.4 20.25,2.4 20.25,2.05 19.5,2.05 19.5,-2.25 ; 23,-2.25 23.75,-2.25 cw(c24.5,-3.95) 25.25,-2.25 26,-2.25 26,2.05 25.25,2.05 25.25,2.4 25.75,2.4 26,3.4 23,3.4 23.25,2.4 23.75,2.4 23.75,2.05 23,2.05 23,-2.25
Top Assembly:
  lines w0.254: -2.95,3.5 -2.95,4.75 -0.95,4.75 ; -2.45,-3 26.95,-3 26.95,4.25 -2.45,4.25 -2.45,-3
  text "'.Designator'" at 8.203,2.71 h1
Top Courtyard:
  lines w0.254: -2.95,-3.5 27.45,-3.5 27.45,4.75 -2.95,4.75 -2.95,-3.5
Top Designator:
  text ".Designator" at 4.632,0.117 h1.52

## PhoenixContact_MCV_1,5_8-G-3.81_1x08_P3.81mm_Vertical [mm]
pads (8):
  rrect14% 1.8x3.6 hole 1.2: 1(0,0)
  rrect100% 1.8x3.6 hole 1.2: 2(3.81,0) 3(7.62,0) 4(11.43,0) 5(15.24,0) 6(19.05,0) 7(22.86,0) 8(26.67,0)
F.SilkS:
  lines w0.254: -3.1,3.5 -3.1,4.75 -1.1,4.75 ; 0.75,-2.25 ccw(c0,-3.95) -0.75,-2.25 -1.5,-2.25 -1.5,2.05 -0.75,2.05 -0.75,2.4 -1.25,2.4 -1.5,3.4 1.5,3.4 1.25,2.4 0.75,2.4 0.75,2.05 1.5,2.05 1.5,-2.25 0.75,-2.25 ; 4.56,-2.25 ccw(c3.81,-3.95) 3.06,-2.25 2.31,-2.25 2.31,2.05 3.06,2.05 3.06,2.4 2.56,2.4 2.31,3.4 5.31,3.4 5.06,2.4 4.56,2.4 4.56,2.05 5.31,2.05 5.31,-2.25 4.56,-2.25 ; 8.37,-2.25 ccw(c7.62,-3.95) 6.87,-2.25 6.12,-2.25 6.12,2.05 6.87,2.05 6.87,2.4 6.37,2.4 6.12,3.4 9.12,3.4 8.87,2.4 8.37,2.4 8.37,2.05 9.12,2.05 9.12,-2.25 8.37,-2.25 ; 12.18,-2.25 ccw(c11.43,-3.95) 10.68,-2.25 9.93,-2.25 9.93,2.05 10.68,2.05 10.68,2.4 10.18,2.4 9.93,3.4 12.93,3.4 12.68,2.4 12.18,2.4 12.18,2.05 12.93,2.05 12.93,-2.25 12.18,-2.25 ; 15.99,-2.25 ccw(c15.24,-3.95) 14.49,-2.25 13.74,-2.25 13.74,2.05 14.49,2.05 14.49,2.4 13.99,2.4 13.74,3.4 16.74,3.4 16.49,2.4 15.99,2.4 15.99,2.05 16.74,2.05 16.74,-2.25 15.99,-2.25 ; 19.8,-2.25 ccw(c19.05,-3.95) 18.3,-2.25 17.55,-2.25 17.55,2.05 18.3,2.05 18.3,2.4 17.8,2.4 17.55,3.4 20.55,3.4 20.3,2.4 19.8,2.4 19.8,2.05 20.55,2.05 20.55,-2.25 19.8,-2.25 ; 23.61,-2.25 ccw(c22.86,-3.95) 22.11,-2.25 21.36,-2.25 21.36,2.05 22.11,2.05 22.11,2.4 21.61,2.4 21.36,3.4 24.36,3.4 24.11,2.4 23.61,2.4 23.61,2.05 24.36,2.05 24.36,-2.25 23.61,-2.25 ; 27.42,-2.25 ccw(c26.67,-3.95) 25.92,-2.25 25.17,-2.25 25.17,2.05 25.92,2.05 25.92,2.4 25.42,2.4 25.17,3.4 28.17,3.4 27.92,2.4 27.42,2.4 27.42,2.05 28.17,2.05 28.17,-2.25 27.42,-2.25 ; -2.71,-3.11 29.38,-3.11 29.38,4.36 -2.71,4.36 -2.71,-3.11
Top Assembly:
  lines w0.254: -3.1,3.5 -3.1,4.75 -1.1,4.75 ; -2.6,-3 29.27,-3 29.27,4.25 -2.6,4.25 -2.6,-3
  text "'.Designator'" at 9.283,2.71 h1
Top Courtyard:
  lines w0.254: -3.1,-3.5 29.77,-3.5 29.77,4.75 -3.1,4.75 -3.1,-3.5
Top Designator:
  text ".Designator" at 5.717,0.117 h1.52